# EAGLE library part DISPLAY-LCD-IPS-1,3 (library Library v1)
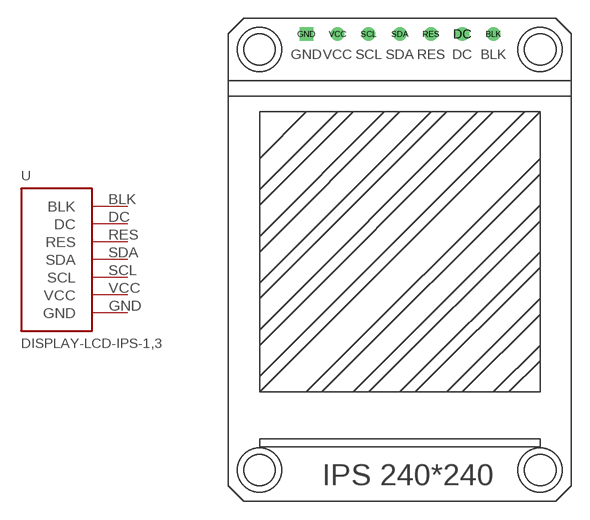
[diagram p0: symbol with the pads of DM-TFT13-377; footprint DM-TFT13-377]

Designator prefix -

## DISPLAY-LCD-IPS-1,3  [DM-TFT13-377]
BLK  BLK
DC  DC
GND  GND  pwr
RES  RES
SCL  SCL
SDA  SDA
VCC  VCC  pwr

## Footprint DM-TFT13-377 (pad centres in mm)
drill 0.6: BLK 8.89,16.51; DC 6.35,16.51; RES 3.81,16.51; SCL -1.27,16.51; SDA 1.27,16.51; VCC -3.81,16.51
drill 0.6 square: GND -6.35,16.51